# Altium integrated library Memory Connectors - PC Card Sockets.IntLib: 2 symbols
Pins are listed as number, name and electrical type; pins without a type are passive.

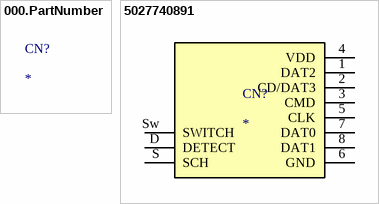
[diagram p0: symbols 000.PartNumber to 5027740891]

## 000.PartNumber
designator CN?
Digikey Description; Manufacturer: *; Series: *; Package: *; Card Type: *; Number of Positions: *; Connector Type: *; Insertion, Removal Method: *; Ejector Side: *; Mounting Type: *; Features: *; Height Above Board: *; Mounting Feature: *; Contact Finish: *; Contact Finish Thickness: *; Base Product Number: *; Ozdisan Link: *; Digikey Link: *

## 5027740891
designator CN?
CONN MICRO SD CARD PUSH-PUSH R/A; Manufacturer: Molex; Card Type: Secure Digital - microSD™; Number of Positions: 10 (8 + 2); Connector Type: Connector and Ejector; Insertion, Removal Method: Push In, Push Out; Base Product Number: 502774; Series: 502774; Package: Tape & Reel (TR); Ejector Side: -; Mounting Type: Surface Mount, Right Angle; Features: Switch; Height Above Board: 0.071"" (1.80mm); Mounting Feature: Reverse - Bottom; Contact Finish: Gold; Contact Finish Thickness: 20.0µin (0.51µm); Ozdisan Link: https://ozdisan.com/konnektor-ve-baglanti-elemanlari/hafiza-konnektorleri/pc-kart-soketleri/MOLEX-5027740891; Digikey Link: https://www.digikey.com/en/products/detail/molex/5027740891/1952535?s=N4IgTCBcDaIKwAYwHZkBYEA4CcBGEAugL5A
footprint MOLEX_5027740891
pins: 1 DAT2, 2 CD/DAT3, 3 CMD, 4 VDD, 5 CLK, 6 GND, 7 DAT0, 8 DAT1, D DETECT, S SCH, Sw SWITCH